# EAGLE library part SN74AVC2T245 (library ublox)
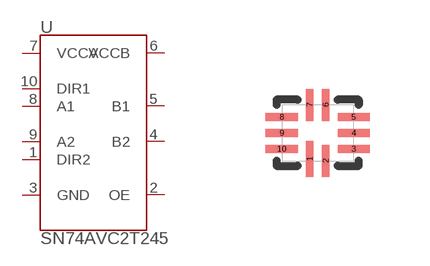
[diagram p6: symbol with the pads of QFN-N10; footprint QFN-N10]

Designator prefix U

## SN74AVC2T245  [QFN-N10]
1  DIR2
2  OE
3  GND
4  B2
5  B1
6  VCCB
7  VCCA
8  A1
9  A2
10  DIR1

## Footprint QFN-N10 (pad centres in mm)
smd 0.2 x 0.9: 1 -0.2,-0.65
smd 0.2 x 0.8: 2 0.2,-0.7; 6 0.2,0.7; 7 -0.2,0.7
smd 0.8 x 0.2: 3 0.9,-0.4; 4 0.9,0; 5 0.9,0.4; 8 -0.9,0.4; 9 -0.9,0; 10 -0.9,-0.4